# EAGLE library part RPI_SOCKET (library tide_clock)
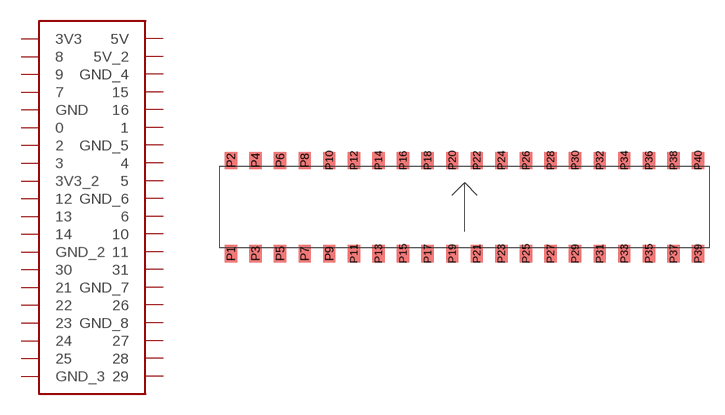
[diagram p17: symbol with the pads of 40PIN_SOCKET; footprint 40PIN_SOCKET]

Designator prefix -

## RPI_SOCKET  [40PIN_SOCKET]
P1  3V3
P2  5V
P3  8
P4  5V_2
P5  9
P6  GND_4
P7  7
P8  15
P9  GND
P10  16
P11  0
P12  1
P13  2
P14  GND_5
P15  3
P16  4
P17  3V3_2
P18  5
P19  12
P20  GND_6
P21  13
P22  6
P23  14
P24  10
P25  GND_2
P26  11
P27  30
P28  31
P29  21
P30  GND_7
P31  22
P32  26
P33  23
P34  GND_8
P35  24
P36  27
P37  25
P38  28
P39  GND_3
P40  29

## Footprint 40PIN_SOCKET (pad centres in mm)
smd 1.27 x 1.78: P1 -24.13,-4.825; P2 -24.13,4.825; P3 -21.59,-4.825; P4 -21.59,4.825; P5 -19.05,-4.825; P6 -19.05,4.825; P7 -16.51,-4.825; P8 -16.51,4.825; P9 -13.97,-4.825; P10 -13.97,4.825; P11 -11.43,-4.825; P12 -11.43,4.825; P13 -8.89,-4.825; P14 -8.89,4.825; P15 -6.35,-4.825; P16 -6.35,4.825; P17 -3.81,-4.825; P18 -3.81,4.825; P19 -1.27,-4.825; P20 -1.27,4.825; P21 1.27,-4.825; P22 1.27,4.825; P23 3.81,-4.825; P24 3.81,4.825; P25 6.35,-4.825; P26 6.35,4.825; P27 8.89,-4.825; P28 8.89,4.825; P29 11.43,-4.825; P30 11.43,4.825; P31 13.97,-4.825; P32 13.97,4.825; P33 16.51,-4.825; P34 16.51,4.825; P35 19.05,-4.825; P36 19.05,4.825; P37 21.59,-4.825; P38 21.59,4.825; P39 24.13,-4.825; P40 24.13,4.825